# Altium schematic symbol library RPSLib_Resistors.SchLib: 20 symbols
Pins are listed as number, name and electrical type; pins without a type are passive.

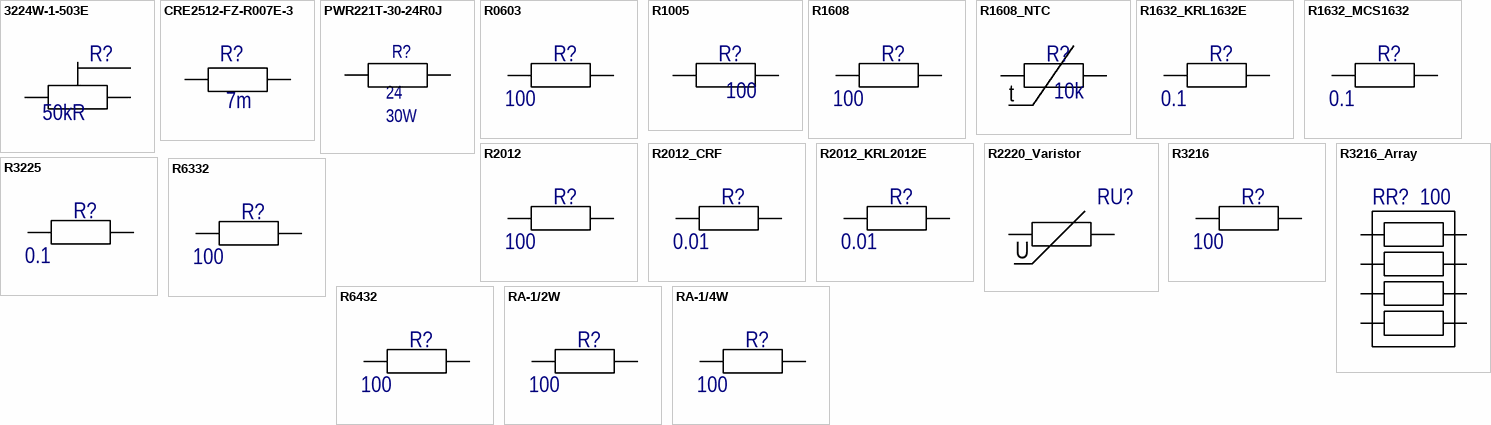
[diagram p0: symbols 3224W-1-503E to RA-1/4W]

## 3224W-1-503E
designator R?  value 50kR  (hidden comment: *)
Res Cermet Trimmer 50K Ohm 10% 0.25W(1/4W) 12(Elec)Turn 1.5mm (4.8 X 3.9 X 5.3mm) J-Hook SMD Embossed T/R; Manufacturer: Bourns; Manufacturer Part Number: 3224W-1-503E; Number of Turns: 12; Temperature Coefficient: 100ppm/°C; Power Rating: 250mW; Voltage Rating (DC): 300V; Insulation Resistance: 100MR; Supplier 1: Digi-Key; RoHS: Yes; Category: Variable Resistors and Potentiometers; Stock 1: 4762; Pricing 1: 1=4,92000, 10=4,50700, 25=4,01560, 50=3,76980, 100=3,44190 (USD); Mount: Surface Mount; Weight: 0.283g; Color: Natural; Contact Plating: Tin; Min Operating Temperature: -65°C; Max Operating Temperature: 150°C; Composition: Cermet,Potentiometer; Tolerance: 10%; Resistance: 50kR; Termination: J-Hook; Taper: Linear; Military Standard: Not; Packaging: Tape and Reel; Package Quantity: 1; Max Power Dissipation: 250mW; Voltage Rating: 300V; Type: Potentiometer; Length: 4.8mm; Height: 0.208inch; Depth: 3.9mm; Width: 4.8mm; Radiation Hardening: No; REACH SVHC: No SVHC; Lead Free: Lead Free; ComponentLink1URL: https://datasheet.ciiva.com/34301/696327-34301426.pdf?src-supplier=Jameco; ComponentLink1Description: https://datasheet.ciiva.com/34301/696327-34301426.pdf?src-supplier=Jameco; ComponentLink2URL: https://datasheet.ciiva.com/11830/0900766b8002e254-11830876.pdf?src-supplier=RSComponents; ComponentLink2Description: https://datasheet.ciiva.com/11830/0900766b8002e254-11830876.pdf?src-supplier=RSComponents; ComponentLink3URL: https://datasheet.ciiva.com/26913/3224w-1-503e-26913806.pdf?src-supplier=IIIC; ComponentLink3Description: https://datasheet.ciiva.com/26913/3224w-1-503e-26913806.pdf?src-supplier=IIIC; ComponentLink4URL: https://datasheet.ciiva.com/2156/3224-2156840.pdf?src-supplier=Digi-Key; ComponentLink4Description: https://datasheet.ciiva.com/2156/3224-2156840.pdf?src-supplier=Digi-Key; ComponentLink5URL: https://datasheet.ciiva.com/16714/70153346-16714873.pdf?src-supplier=Allied+Electronics; ComponentLink5Description: https://datasheet.ciiva.com/16714/70153346-16714873.pdf?src-supplier=Allied+Electronics; ComponentLink6URL: https://datasheet.ciiva.com/2156/3224-2156842.pdf?src-supplier=Digi-Key; ComponentLink6Description: https://datasheet.ciiva.com/2156/3224-2156842.pdf?src-supplier=Digi-Key; ComponentLink7URL: https://datasheet.ciiva.com/7400/1849486-7400666.pdf?src-supplier=Newark; ComponentLink7Description: https://datasheet.ciiva.com/7400/1849486-7400666.pdf?src-supplier=Newark; ComponentLink8URL: https://datasheet.ciiva.com/7813/1598300-7813387.pdf?src-supplier=Element14; ComponentLink8Description: https://datasheet.ciiva.com/7813/1598300-7813387.pdf?src-supplier=Element14; ComponentLink9URL: https://datasheet.ciiva.com/2156/3224-2156841.pdf?src-supplier=Digi-Key; ComponentLink9Description: https://datasheet.ciiva.com/2156/3224-2156841.pdf?src-supplier=Digi-Key; ComponentLink10URL: https://datasheet.ciiva.com/3266/3224-3266153.pdf?src-supplier=Avnet; ComponentLink10Description: https://datasheet.ciiva.com/3266/3224-3266153.pdf?src-supplier=Avnet; ComponentLink11URL: https://datasheet.ciiva.com/26319/eq3224-dat-e-26319835.pdf?src-supplier=Distrelec; ComponentLink11Description: https://datasheet.ciiva.com/26319/eq3224-dat-e-26319835.pdf?src-supplier=Distrelec; ComponentLink12URL: https://datasheet.ciiva.com/30226/3224-30226717.pdf?src-supplier=Onlinecomponents.com; ComponentLink12Description: https://datasheet.ciiva.com/30226/3224-30226717.pdf?src-supplier=Onlinecomponents.com; ComponentLink13URL: https://datasheet.ciiva.com/1135/1849486-1135454.pdf?src-supplier=Newark; ComponentLink13Description: https://datasheet.ciiva.com/1135/1849486-1135454.pdf?src-supplier=Newark; ComponentLink14URL: https://datasheet.ciiva.com/48692/001054892-da-01-en-smd-trimmer-3224w-1-503e-50k-ohm-0-25w-48692743.pdf?src-supplier=Conrad; ComponentLink14Description: https://datasheet.ciiva.com/48692/001054892-da-01-en-smd-trimmer-3224w-1-503e-50k-ohm-0-25w-48692743.pdf?src-supplier=Conrad; Supplier Part Number 1: 3224W-1-503ECT-ND
footprint R3224W (Подстроечный резистор)
pins: 1 CCW, 2 W, 3 CW
1 alternate drawing of the same symbol

## CRE2512-FZ-R007E-3
designator R?  value 7m  (hidden comment: CRE2512-FZ-R007E-3)
RES 0.007 OHM 1% 3W 2512; Manufacturer: Bourns; Resistance: 7mR; Temperature Coefficient: 75ppm/°C; Supplier 1: Digi-Key; Manufacturer Part Number: CRE2512-FZ-R007E-3; RoHS: Yes; Category: Chip SMD Resistors; Stock 1: 15181; Pricing 1: 1=0,77000, 10=0,66800, 25=0,58680, 50=0,53640, 100=0,46550, 250=0,40480, 500=0,33598, 1000=0,27526 (USD); Mount: Surface Mount; Case/Package: 2512; Case Code (Metric): 6432; Case Code (Imperial): 2512; Contact Plating: Tin; Min Operating Temperature: -55°C; Max Operating Temperature: 170°C; Packaging: Cut Tape; Tolerance: 1%; Power Rating: 3W; Composition: Metal Film,Metal Alloy,Thick Film; Number of Terminations: 2; Termination: Solder; Max Power Dissipation: 3W; Features: Moisture Resistant,Automotive AEC-Q200; Length: 0.254inch; Height: 0.035inch; Width: 0.132inch; Depth: 3.35mm; REACH SVHC: No SVHC; ComponentLink1URL: https://datasheet.ciiva.com/46424/1838634-46424806.pdf?src-supplier=Element14; ComponentLink1Description: https://datasheet.ciiva.com/46424/1838634-46424806.pdf?src-supplier=Element14; ComponentLink2URL: https://datasheet.ciiva.com/46424/1838634-46424807.pdf?src-supplier=Element14; ComponentLink2Description: https://datasheet.ciiva.com/46424/1838634-46424807.pdf?src-supplier=Element14; Supplier Part Number 1: CRE2512-FZ-R007E-3CT-ND
footprint RESC6432X09N_CRE2512-R005-009 (Chip Resistor, 2-Leads, Body 6,40x3,20mm, IPC Medium Density)
pins: 1, 2

## PWR221T-30-24R0J
designator R?  value 24  Power: 30W  (hidden comment: PWR221T-30-24R0J)
Res Thick Film 24 Ohm 5% 2.25/30W ±100ppm/C Epoxy TO-220 RDL Automotive Tube; Manufacturer: Bourns; Supplier 1: Digikey; Manufacturer Part Number: PWR221T-30-24R0J; RoHS: No; Category: Through-Hole Resistors; Stock 1: 275; Pricing 1: 1=5,36, 10=4,595, 25=4,43, 50=4,1208, 100=3,4203, 250=3,0906, 500=2,83304, 1000=2,5961 (USD); ComponentLink1URL: https://www.bourns.com/docs/Product-Datasheets/PWR221T-30.pdf?src-supplier=Digikey; ComponentLink1Description: https://www.bourns.com/docs/Product-Datasheets/PWR221T-30.pdf?src-supplier=Digikey; Supplier Part Number 1: PWR221T-30-24R0J-ND; Tolerance: ±5%
footprint PWR221T (PWR221T-30 Series Power Resistor)
pins: 1, 2

## R0603
designator R?  value 100  (hidden comment: R0603)
Резистор 0.6x0.3 мм; Type: *; PartNo: *; Supplier 1: *; Supplier Part Number 1: *; Manufacturer Part Number: *; Manufacturer: *
footprint RESC0603X02N (Chip Resistor, 2-Leads, Body 0.60x0.30mm, IPC Medium Density)
pins: 1, 2

## R1005
designator R?  value 100  (hidden comment: R1005)
Резистор 1.0x0.5 мм; Tolerance: ±*%; РКД Наименование: RC1005M - * Ohm ±*%; Type: *; PartNo: *; Supplier 1: *; Supplier Part Number 1: *; Manufacturer: *; Manufacturer Part Number: *
footprint RESC1005X03L (Chip Resistor, 2-Leads, Body 1.00x0.50mm, IPC High Density)
footprint RESC1005X03N (Chip Resistor, 2-Leads, Body 1.00x0.50mm, IPC Medium Density)
pins: 1, 2

## R1608
designator R?  value 100  (hidden comment: R1608)
Резистор 1.6x0.8 мм; Tolerance: ±5%; РКД Наименование: RC1608M - 100 Ohm ±5%; Type: *; PartNo: *; Supplier 1: *; Supplier Part Number 1: *; Manufacturer: *; Manufacturer Part Number: *
footprint RESC1608X05N (Chip Resistor, 2-Leads, Body 1.60x0.80mm, IPC Medium Density)
pins: 1, 2

## R1608_NTC
designator R?  value 10k  (hidden comment: R1608_NTC)
Резистор 1.6x0.8 мм; Tolerance: ±5%; Type: *; PartNo: *; Supplier 1: *; Supplier Part Number 1: *; Manufacturer: *; Manufacturer Part Number: *
footprint RESC1608X05N (Chip Resistor, 2-Leads, Body 1.60x0.80mm, IPC Medium Density)
pins: 1, 2
text: t

## R1632_KRL1632E
designator R?  value 0.1  (hidden comment: *)
Резистор 1.6x3.2 мм; Tolerance: ±5%; Type: *; PartNo: *; Supplier 1: Digi-Key; Supplier Part Number 1: *; Manufacturer: *; Manufacturer Part Number: *
footprint RESC3216X05N_KRL1632 (Chip Resistor, 2-Leads, Body 3.20x1.60mm, IPC Medium Density)
pins: 1, 2

## R1632_MCS1632
designator R?  value 0.1  (hidden comment: *)
Резистор 1.6x3.2 мм; Tolerance: ±1%; Power: 1.0W; Type: *; PartNo: *; Supplier 1: Digi-Key; Supplier Part Number 1: *; Manufacturer Part Number: *; Manufacturer: *
footprint RESC3216X06N-MSC1632 (Chip Resistor, 2-Leads, Body 3.20x1.60mm, IPC Medium Density)
pins: 1, 2

## R2012
designator R?  value 100  (hidden comment: R2012)
Резистор 2.0x1.2 мм; Tolerance: ± *%; Type: *; PartNo: *; Supplier 1: *; Supplier Part Number 1: *; РКД Наименование: *; Manufacturer: *; Manufacturer Part Number: *
footprint RESC2012X06N (Chip Resistor, 2-Leads, Body 2.00x1.25mm, IPC Medium Density)
pins: 1, 2

## R2012_CRF
designator R?  value 0.01  (hidden comment: R2012_CRF)
Резистор 2.0x1.2 мм; Tolerance: 1%; Type: *; PartNo: *; Supplier 1: *; Supplier Part Number 1: *; Manufacturer Part Number: *; Manufacturer: *
footprint RESC2012X06N-CFR (Chip Resistor, 2-Leads, Body 1.95x1.25mm, IPC Medium Density)
pins: 1, 2

## R2012_KRL2012E
designator R?  value 0.01  (hidden comment: *)
Резистор 2.0x1.2 мм; Tolerance: ±5%; Type: *; PartNo: *; Supplier 1: Digi-Key; Supplier Part Number 1: *; Manufacturer Part Number: *; Manufacturer: *
footprint RESC1220X05N_KRL2012 (Chip Resistor, 2-Leads, Body 1.25x2.00mm, IPC Medium Density)
pins: 1, 2

## R2220_Varistor
designator RU?  (value not drawn)
Резистор 1.6x0.8 мм; Tolerance: ±5%; Value: 56V; Type: *; PartNo: *; Supplier 1: Digi-Key; Supplier Part Number 1: *; Manufacturer Part Number: *; Manufacturer: *
footprint RESC5750X25N (Chip Resistor, 2-Leads, Body 5.70x5.00mm, IPC Medium Density)
pins: 1, 2
1 alternate drawing of the same symbol
text: U

## R3216
designator R?  value 100  (hidden comment: R3216)
Резистор 3.2x1.6 мм; Tolerance: ± *%; Type: *; PartNo: *; Supplier 1: *; Supplier Part Number 1: *; Manufacturer: *; Manufacturer Part Number: *
footprint RESC3216X06N (Chip Resistor, 2-Leads, Body 3.20x1.60mm, IPC Medium Density)
pins: 1, 2

## R3216_Array
designator RR?  value 100  (hidden comment: R3216_Array)
Резисторы 3.2x1.6 мм; Tolerance: ±5%; Type: *; PartNo: *; Supplier 1: *; Supplier Part Number 1: *; Manufacturer Part Number: *; Manufacturer: *
footprint CAC-80P319X159-8N (Chip Array, ConvexS, 8-Leads, Pitch 0.80mm,  Body 3.20x1.60mm,  IPC Medium Density)
pins: 1, 2, 3, 4, 5, 6, 7, 8

## R3225
designator R?  value 0.1  (hidden comment: R3225)
Резистор 3.2x2.5 мм; Tolerance: ± *%; Type: *; PartNo: *; Supplier 1: *; Supplier Part Number 1: *; Manufacturer: *; Manufacturer Part Number: *
footprint RESC3225X06N (Chip Resistor, 2-Leads, Body 3.20x2.50mm, IPC Medium Density)
pins: 1, 2

## R6332
designator R?  value 100  (hidden comment: R6332)
Резистор 6.3x3.2 мм; Tolerance: ±5%; Type: *; PartNo: *; Supplier 1: *; Supplier Part Number 1: *; Manufacturer Part Number: *; Manufacturer: *
footprint RESC6332X06N (Chip Resistor, 2-Leads, Body 6.30x3.20mm, IPC Medium Density)
pins: 1, 2

## R6432
designator R?  value 100  (hidden comment: R6432)
Резистор 6.4x3.2 мм; Type: *; PartNo: *; Supplier 1: *; Supplier Part Number 1: *; Manufacturer Part Number: *; Manufacturer: *
footprint RESC6432X07N (Chip Resistor, 2-Leads, Body 6.4x3.2mm, IPC Medium Density)
pins: 1, 2

## RA-1/2W
designator R?, comment value 100  (hidden comment: Axial Resistot 1/2W)
Axial resistor 1/2W; Tolerance: ±5%; Type: *; PartNo: *; Supplier 1: *; Supplier Part Number 1: *; РКД Наименование: *; Manufacturer: *; Manufacturer Part Number: *
footprint RAXIAL 1/2W 15mm (Resistor axial 1/2W, 15mm)
pins: 1, 2

## RA-1/4W
designator R?, comment value 100  (hidden comment: Axial Resistot 1/4W)
Axial resistor 1/4W; Tolerance: ±5%; Type: *; PartNo: *; Supplier 1: *; Supplier Part Number 1: *; РКД Наименование: *; Manufacturer: *; Manufacturer Part Number: *
footprint RAXIAL 1/4W 10mm (Resistor axial 1/4W, 10mm)
footprint RAXIAL 1/4W 5mm (Resistor axial 1/4W, 5mm)
pins: 1, 2